# EAGLE library part 687150149022 (library Eagle_FPC_CONNECTOR_AND_FFC_CAB (rev18c))
WR-FPC 0.50mm SMT Horiz. Bot. Contact Hinge type WR-FPC 0.50mm 50 pins Hinge type SMT Horizontal Bottom Contact ;=>Code : Con_FPC_ZIF_0.50_6871xx149022_687150149022 <http://katalog.we-online.de/media/images/eican/Con_FPC_ZIF_0.50_687115149022_pf2.jpg> Details see: http://katalog.we-online.de/em/datasheet/6871xx149022.pdf Created 2014-10-08, Karrer Zheng 2014 (C) Wurth Elektronik
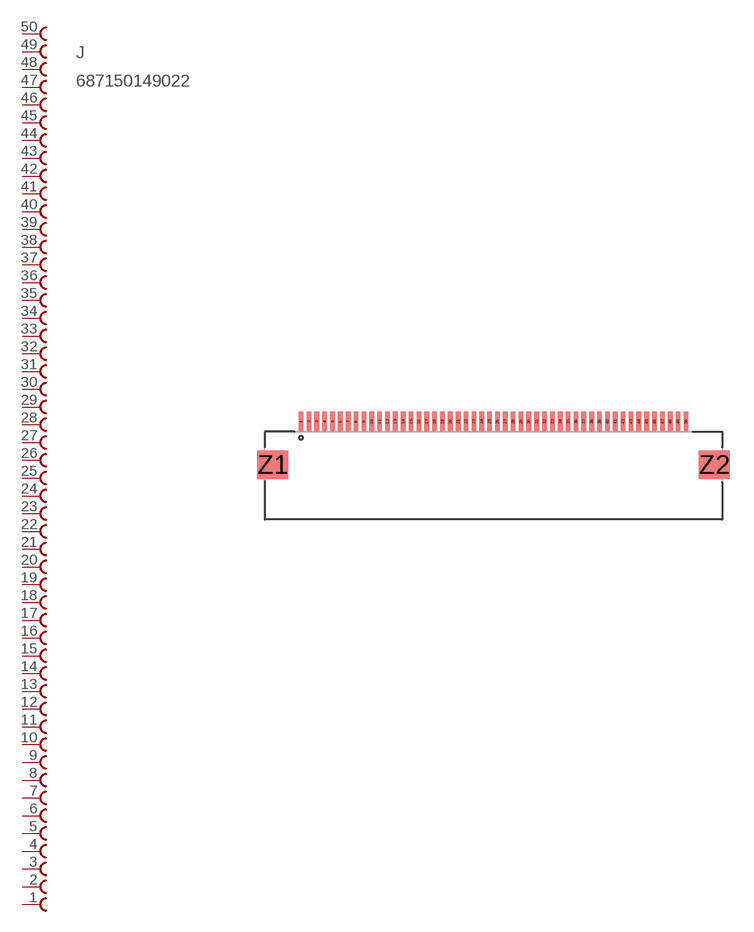
[diagram p125: symbol with the pads of 687150149022; footprint 687150149022]

Designator prefix J

## 687150149022  [687150149022]
1  50  pas
2  49  pas
3  48  pas
4  47  pas
5  46  pas
6  45  pas
7  44  pas
8  43  pas
9  42  pas
10  41  pas
11  40  pas
12  39  pas
13  38  pas
14  37  pas
15  36  pas
16  35  pas
17  34  pas
18  33  pas
19  32  pas
20  31  pas
21  30  pas
22  29  pas
23  28  pas
24  27  pas
25  26  pas
26  25  pas
27  24  pas
28  23  pas
29  22  pas
30  21  pas
31  20  pas
32  19  pas
33  18  pas
34  17  pas
35  16  pas
36  15  pas
37  14  pas
38  13  pas
39  12  pas
40  11  pas
41  10  pas
42  9  pas
43  8  pas
44  7  pas
45  6  pas
46  5  pas
47  4  pas
48  3  pas
49  2  pas
50  1  pas

## Footprint 687150149022 (pad centres in mm)
WR-FPC 0.50mm SMT Horiz. Bot. Contact Hinge type WR-FPC 0.50mm 50pins Hinge type SMT Horizontal Bottom Contact
smd 0.3 x 1.3: 1 -12.25,0; 2 -11.75,0; 3 -11.25,0; 4 -10.75,0; 5 -10.25,0; 6 -9.75,0; 7 -9.25,0; 8 -8.75,0; 9 -8.25,0; 10 -7.75,0; 11 -7.25,0; 12 -6.75,0; 13 -6.25,0; 14 -5.75,0; 15 -5.25,0; 16 -4.75,0; 17 -4.25,0; 18 -3.75,0; 19 -3.25,0; 20 -2.75,0; 21 -2.25,0; 22 -1.75,0; 23 -1.25,0; 24 -0.75,0; 25 -0.25,0; 26 0.25,0; 27 0.75,0; 28 1.25,0; 29 1.75,0; 30 2.25,0; 31 2.75,0; 32 3.25,0; 33 3.75,0; 34 4.25,0; 35 4.75,0; 36 5.25,0; 37 5.75,0; 38 6.25,0; 39 6.75,0; 40 7.25,0; 41 7.75,0; 42 8.25,0; 43 8.75,0; 44 9.25,0; 45 9.75,0; 46 10.25,0; 47 10.75,0; 48 11.25,0; 49 11.75,0; 50 12.25,0
smd 2 x 1.8: Z1 -14.05,-2.75; Z2 14.05,-2.75